# EAGLE library part BS9001 (library D21_v39)
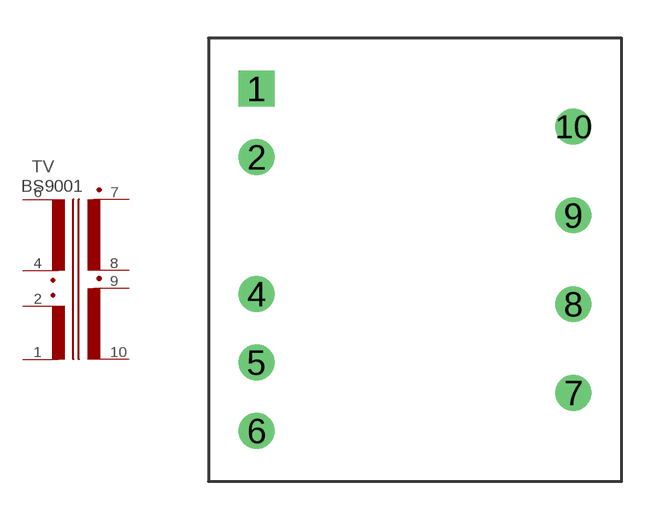
[diagram p0: symbol with the pads of BS9001; footprint BS9001]

Designator prefix TV

## BS9001  [BS9001]
1  1  pas
2  2  pas
4  4  pas
6  6  pas
7  7  pas
8  8  pas
9  9  pas
10  10  pas

## Footprint BS9001 (pad centres in mm)
drill 0.9 square: 1 -6.25,6.75
drill 0.9: 2 -6.25,4.05; 4 -6.25,-1.35; 5 -6.25,-4.05; 6 -6.25,-6.75; 7 6.25,-5.25; 8 6.25,-1.75; 9 6.25,1.75; 10 6.25,5.25